# EAGLE library part ISP2096* (library AMD_Taxi)
Lattice ispCPLD
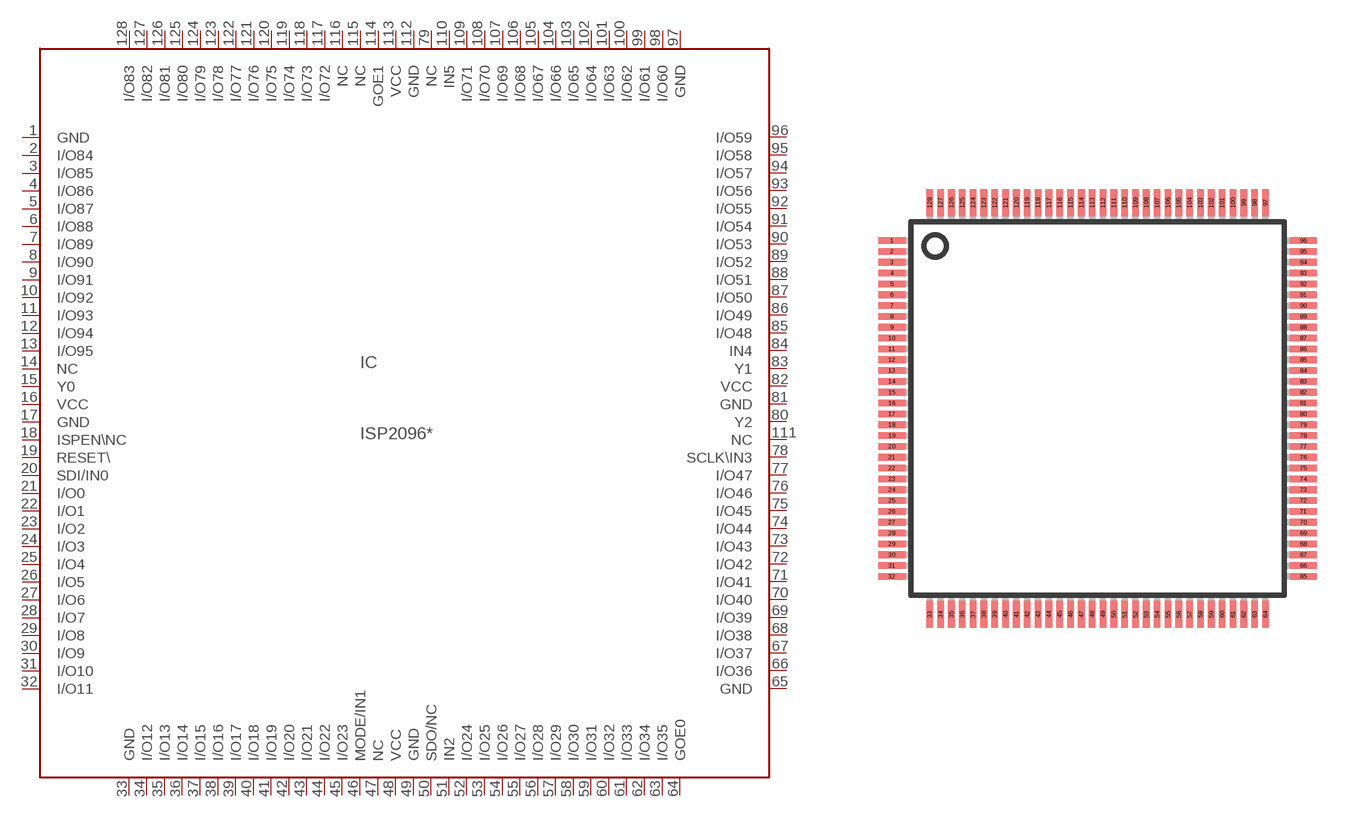
[diagram p10: symbol with the pads of TQFP128; footprint TQFP128]

Designator prefix IC

## ISP2096-80LT  [TQFP128]
1  GND  pwr
2  I/O84
3  I/O85
4  I/O86
5  I/O87
6  I/O88
7  I/O89
8  I/O90
9  I/O91
10  I/O92
11  I/O93
12  I/O94
13  I/O95
14  NC  pwr
15  Y0  in
16  VCC  pwr
17  GND  pwr
18  ISPEN\NC  in
19  RESET\  in
20  SDI/IN0  in
21  I/O0
22  I/O1
23  I/O2
24  I/O3
25  I/O4
26  I/O5
27  I/O6
28  I/O7
29  I/O8
30  I/O9
31  I/O10
32  I/O11
33  GND  pwr
34  I/O12
35  I/O13
36  I/O14
37  I/O15
38  I/O16
39  I/O17
40  I/O18
41  I/O19
42  I/O20
43  I/O21
44  I/O22
45  I/O23
46  MODE/IN1  in
47  NC  nc
48  VCC  pwr
49  GND  pwr
50  SDO/NC  in
51  IN2
52  I/O24
53  I/O25
54  I/O26
55  I/O27
56  I/O28
57  I/O29
58  I/O30
59  I/O31
60  I/O32
61  I/O33
62  I/O34
63  I/O35
64  GOE0  in
65  GND  pwr
66  I/O36
67  I/O37
68  I/O38
69  I/O39
70  I/O40
71  I/O41
72  I/O42
73  I/O43
74  I/O44
75  I/O45
76  I/O46
77  I/O47
78  SCLK\IN3  in
79  NC  nc
80  Y2  in
81  GND  pwr
82  VCC  pwr
83  Y1  in
84  IN4  in
85  I/O48
86  I/O49
87  I/O50
88  I/O51
89  I/O52
90  I/O53
91  I/O54
92  I/O55
93  I/O56
94  I/O57
95  I/O58
96  I/O59
97  GND  pwr
98  I/O60
99  I/O61
100  I/O62
101  I/O63
102  I/O64
103  I/O65
104  I/O66
105  I/O67
106  I/O68
107  I/O69
108  I/O70
109  I/O71
110  IN5  in
111  NC  nc
112  GND  pwr
113  VCC  pwr
114  GOE1  pwr
115  NC  pwr
116  NC  pwr
117  I/O72
118  I/O73
119  I/O74
120  I/O75
121  I/O76
122  I/O77
123  I/O78
124  I/O79
125  I/O80
126  I/O81
127  I/O82
128  I/O83

## Footprint TQFP128 (pad centres in mm)
smd 1 x 0.25: 1 -7.6,6.2; 2 -7.6,5.8; 3 -7.6,5.4; 4 -7.6,5; 5 -7.6,4.6; 6 -7.6,4.2; 7 -7.6,3.8; 8 -7.6,3.4; 9 -7.6,3; 10 -7.6,2.6; 11 -7.6,2.2; 12 -7.6,1.8; 13 -7.6,1.4; 14 -7.6,1; 15 -7.6,0.6; 16 -7.6,0.2; 17 -7.6,-0.2; 18 -7.6,-0.6; 19 -7.6,-1; 20 -7.6,-1.4; 21 -7.6,-1.8; 22 -7.6,-2.2; 23 -7.6,-2.6; 24 -7.6,-3; 25 -7.6,-3.4; 26 -7.6,-3.8; 27 -7.6,-4.2; 28 -7.6,-4.6; 29 -7.6,-5; 30 -7.6,-5.4; 31 -7.6,-5.8; 32 -7.6,-6.2; 65 7.6,-6.2; 66 7.6,-5.8; 67 7.6,-5.4; 68 7.6,-5; 69 7.6,-4.6; 70 7.6,-4.2; 71 7.6,-3.8; 72 7.6,-3.4; 73 7.6,-3; 74 7.6,-2.6; 75 7.6,-2.2; 76 7.6,-1.8; 77 7.6,-1.4; 78 7.6,-1; 79 7.6,-0.6; 80 7.6,-0.2; 81 7.6,0.2; 82 7.6,0.6; 83 7.6,1; 84 7.6,1.4; 85 7.6,1.8; 86 7.6,2.2; 87 7.6,2.6; 88 7.6,3; 89 7.6,3.4; 90 7.6,3.8; 91 7.6,4.2; 92 7.6,4.6; 93 7.6,5; 94 7.6,5.4; 95 7.6,5.8; 96 7.6,6.2
smd 0.25 x 1: 33 -6.2,-7.6; 34 -5.8,-7.6; 35 -5.4,-7.6; 36 -5,-7.6; 37 -4.6,-7.6; 38 -4.2,-7.6; 39 -3.8,-7.6; 40 -3.4,-7.6; 41 -3,-7.6; 42 -2.6,-7.6; 43 -2.2,-7.6; 44 -1.8,-7.6; 45 -1.4,-7.6; 46 -1,-7.6; 47 -0.6,-7.6; 48 -0.2,-7.6; 49 0.2,-7.6; 50 0.6,-7.6; 51 1,-7.6; 52 1.4,-7.6; 53 1.8,-7.6; 54 2.2,-7.6; 55 2.6,-7.6; 56 3,-7.6; 57 3.4,-7.6; 58 3.8,-7.6; 59 4.2,-7.6; 60 4.6,-7.6; 61 5,-7.6; 62 5.4,-7.6; 63 5.8,-7.6; 64 6.2,-7.6; 97 6.2,7.6; 98 5.8,7.6; 99 5.4,7.6; 100 5,7.6; 101 4.6,7.6; 102 4.2,7.6; 103 3.8,7.6; 104 3.4,7.6; 105 3,7.6; 106 2.6,7.6; 107 2.2,7.6; 108 1.8,7.6; 109 1.4,7.6; 110 1,7.6; 111 0.6,7.6; 112 0.2,7.6; 113 -0.2,7.6; 114 -0.6,7.6; 115 -1,7.6; 116 -1.4,7.6; 117 -1.8,7.6; 118 -2.2,7.6; 119 -2.6,7.6; 120 -3,7.6; 121 -3.4,7.6; 122 -3.8,7.6; 123 -4.2,7.6; 124 -4.6,7.6; 125 -5,7.6; 126 -5.4,7.6; 127 -5.8,7.6; 128 -6.2,7.6